# EAGLE library part STM32F74_Z (library Marvin)
STM32F74xZx 216 MHz, 320KB RAM, 1024 KB Flash
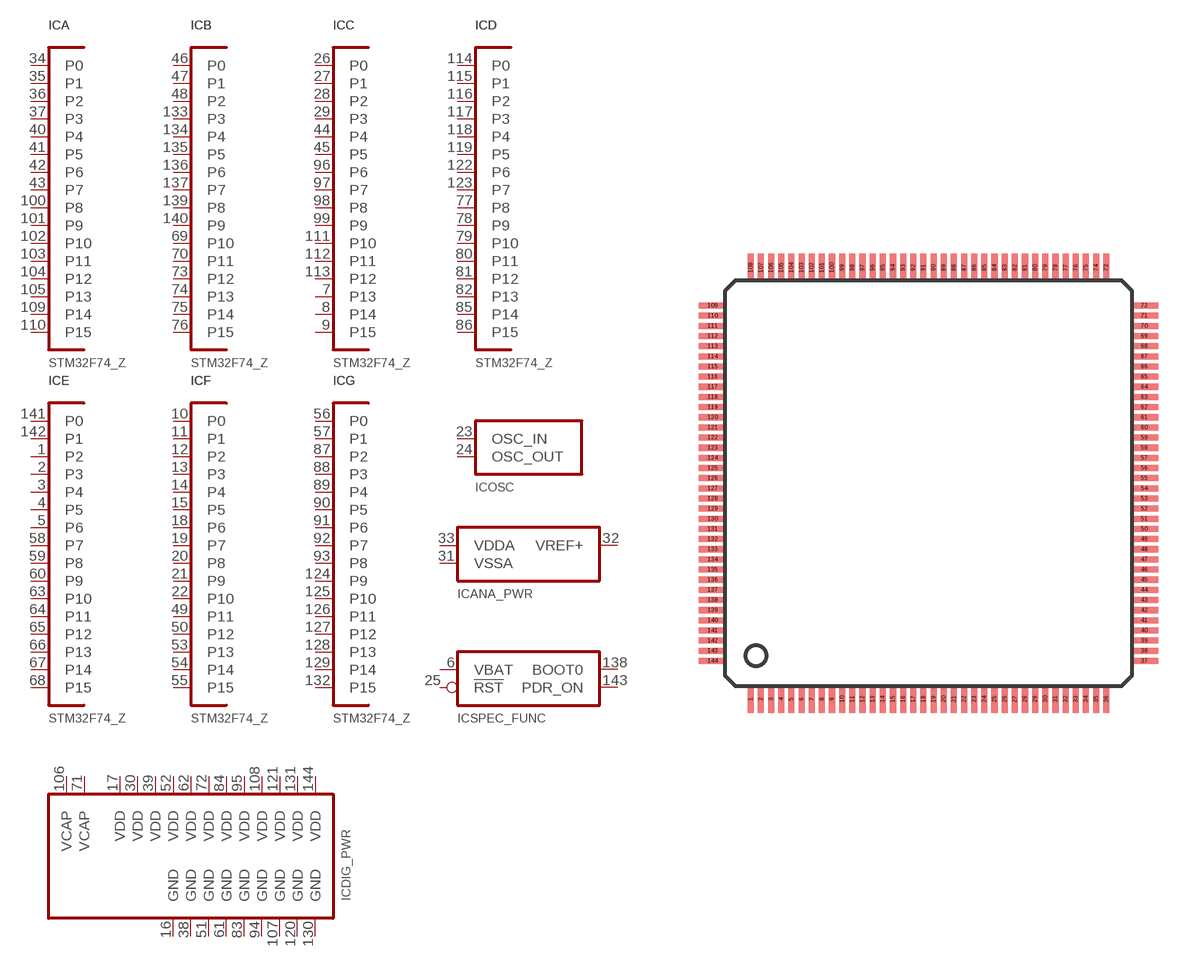
[diagram p17: symbol with the pads of LQFP144-ST; footprint LQFP144-ST]

Designator prefix IC; gates A=IO_PORT ANA_PWR=ANA_PWR74_Z B=IO_PORT C=IO_PORT D=IO_PORT DIG_PWR=DIG_PWR74_Z E=IO_PORT F=IO_PORT G=IO_PORT OSC=OSC SPEC_FUNC=SPEC_FUNC74_Z

## STM32F74_ZST  [LQFP144-ST]
1  E:P2
2  E:P3
3  E:P4
4  E:P5
5  E:P6
6  SPEC_FUNC:VBAT  pas
7  C:P13
8  C:P14
9  C:P15
10  F:P0
11  F:P1
12  F:P2
13  F:P3
14  F:P4
15  F:P5
16  DIG_PWR:GND  pwr
17  DIG_PWR:VDD  pwr
18  F:P6
19  F:P7
20  F:P8
21  F:P9
22  F:P10
23  OSC:OSC_IN  pas
24  OSC:OSC_OUT  pas
25  SPEC_FUNC:!RST  in
26  C:P0
27  C:P1
28  C:P2
29  C:P3
30  DIG_PWR:VDD  pwr
31  ANA_PWR:VSSA  pwr
32  ANA_PWR:VREF+  pas
33  ANA_PWR:VDDA  pwr
34  A:P0
35  A:P1
36  A:P2
37  A:P3
38  DIG_PWR:GND  pwr
39  DIG_PWR:VDD  pwr
40  A:P4
41  A:P5
42  A:P6
43  A:P7
44  C:P4
45  C:P5
46  B:P0
47  B:P1
48  B:P2
49  F:P11
50  F:P12
51  DIG_PWR:GND  pwr
52  DIG_PWR:VDD  pwr
53  F:P13
54  F:P14
55  F:P15
56  G:P0
57  G:P1
58  E:P7
59  E:P8
60  E:P9
61  DIG_PWR:GND  pwr
62  DIG_PWR:VDD  pwr
63  E:P10
64  E:P11
65  E:P12
66  E:P13
67  E:P14
68  E:P15
69  B:P10
70  B:P11
71  DIG_PWR:VCAP  pwr
72  DIG_PWR:VDD  pwr
73  B:P12
74  B:P13
75  B:P14
76  B:P15
77  D:P8
78  D:P9
79  D:P10
80  D:P11
81  D:P12
82  D:P13
83  DIG_PWR:GND  pwr
84  DIG_PWR:VDD  pwr
85  D:P14
86  D:P15
87  G:P2
88  G:P3
89  G:P4
90  G:P5
91  G:P6
92  G:P7
93  G:P8
94  DIG_PWR:GND  pwr
95  DIG_PWR:VDD  pwr
96  C:P6
97  C:P7
98  C:P8
99  C:P9
100  A:P8
101  A:P9
102  A:P10
103  A:P11
104  A:P12
105  A:P13
106  DIG_PWR:VCAP  pwr
107  DIG_PWR:GND  pwr
108  DIG_PWR:VDD  pwr
109  A:P14
110  A:P15
111  C:P10
112  C:P11
113  C:P12
114  D:P0
115  D:P1
116  D:P2
117  D:P3
118  D:P4
119  D:P5
120  DIG_PWR:GND  pwr
121  DIG_PWR:VDD  pwr
122  D:P6
123  D:P7
124  G:P9
125  G:P10
126  G:P11
127  G:P12
128  G:P13
129  G:P14
130  DIG_PWR:GND  pwr
131  DIG_PWR:VDD  pwr
132  G:P15
133  B:P3
134  B:P4
135  B:P5
136  B:P6
137  B:P7
138  SPEC_FUNC:BOOT0  in
139  B:P8
140  B:P9
141  E:P0
142  E:P1
143  SPEC_FUNC:PDR_ON
144  DIG_PWR:VDD  pwr

## Footprint LQFP144-ST (pad centres in mm)
LQFP144 according to STM32F7 datasheet
smd 0.3 x 1.35: 1 -8.75,-10.625; 2 -8.25,-10.625; 3 -7.75,-10.625; 4 -7.25,-10.625; 5 -6.75,-10.625; 6 -6.25,-10.625; 7 -5.75,-10.625; 8 -5.25,-10.625; 9 -4.75,-10.625; 10 -4.25,-10.625; 11 -3.75,-10.625; 12 -3.25,-10.625; 13 -2.75,-10.625; 14 -2.25,-10.625; 15 -1.75,-10.625; 16 -1.25,-10.625; 17 -0.75,-10.625; 18 -0.25,-10.625; 19 0.25,-10.625; 20 0.75,-10.625; 21 1.25,-10.625; 22 1.75,-10.625; 23 2.25,-10.625; 24 2.75,-10.625; 25 3.25,-10.625; 26 3.75,-10.625; 27 4.25,-10.625; 28 4.75,-10.625; 29 5.25,-10.625; 30 5.75,-10.625; 31 6.25,-10.625; 32 6.75,-10.625; 33 7.25,-10.625; 34 7.75,-10.625; 35 8.25,-10.625; 36 8.75,-10.625; 73 8.75,10.625; 74 8.25,10.625; 75 7.75,10.625; 76 7.25,10.625; 77 6.75,10.625; 78 6.25,10.625; 79 5.75,10.625; 80 5.25,10.625; 81 4.75,10.625; 82 4.25,10.625; 83 3.75,10.625; 84 3.25,10.625; 85 2.75,10.625; 86 2.25,10.625; 87 1.75,10.625; 88 1.25,10.625; 89 0.75,10.625; 90 0.25,10.625; 91 -0.25,10.625; 92 -0.75,10.625; 93 -1.25,10.625; 94 -1.75,10.625; 95 -2.25,10.625; 96 -2.75,10.625; 97 -3.25,10.625; 98 -3.75,10.625; 99 -4.25,10.625; 100 -4.75,10.625; 101 -5.25,10.625; 102 -5.75,10.625; 103 -6.25,10.625; 104 -6.75,10.625; 105 -7.25,10.625; 106 -7.75,10.625; 107 -8.25,10.625; 108 -8.75,10.625
smd 1.35 x 0.3: 37 10.625,-8.75; 38 10.625,-8.25; 39 10.625,-7.75; 40 10.625,-7.25; 41 10.625,-6.75; 42 10.625,-6.25; 43 10.625,-5.75; 44 10.625,-5.25; 45 10.625,-4.75; 46 10.625,-4.25; 47 10.625,-3.75; 48 10.625,-3.25; 49 10.625,-2.75; 50 10.625,-2.25; 51 10.625,-1.75; 52 10.625,-1.25; 53 10.625,-0.75; 54 10.625,-0.25; 55 10.625,0.25; 56 10.625,0.75; 57 10.625,1.25; 58 10.625,1.75; 59 10.625,2.25; 60 10.625,2.75; 61 10.625,3.25; 62 10.625,3.75; 63 10.625,4.25; 64 10.625,4.75; 65 10.625,5.25; 66 10.625,5.75; 67 10.625,6.25; 68 10.625,6.75; 69 10.625,7.25; 70 10.625,7.75; 71 10.625,8.25; 72 10.625,8.75; 109 -10.625,8.75; 110 -10.625,8.25; 111 -10.625,7.75; 112 -10.625,7.25; 113 -10.625,6.75; 114 -10.625,6.25; 115 -10.625,5.75; 116 -10.625,5.25; 117 -10.625,4.75; 118 -10.625,4.25; 119 -10.625,3.75; 120 -10.625,3.25; 121 -10.625,2.75; 122 -10.625,2.25; 123 -10.625,1.75; 124 -10.625,1.25; 125 -10.625,0.75; 126 -10.625,0.25; 127 -10.625,-0.25; 128 -10.625,-0.75; 129 -10.625,-1.25; 130 -10.625,-1.75; 131 -10.625,-2.25; 132 -10.625,-2.75; 133 -10.625,-3.25; 134 -10.625,-3.75; 135 -10.625,-4.25; 136 -10.625,-4.75; 137 -10.625,-5.25; 138 -10.625,-5.75; 139 -10.625,-6.25; 140 -10.625,-6.75; 141 -10.625,-7.25; 142 -10.625,-7.75; 143 -10.625,-8.25; 144 -10.625,-8.75